# Altium integrated library Texas Instruments Interface 1394.IntLib: 47 symbols (part 6 of 17)
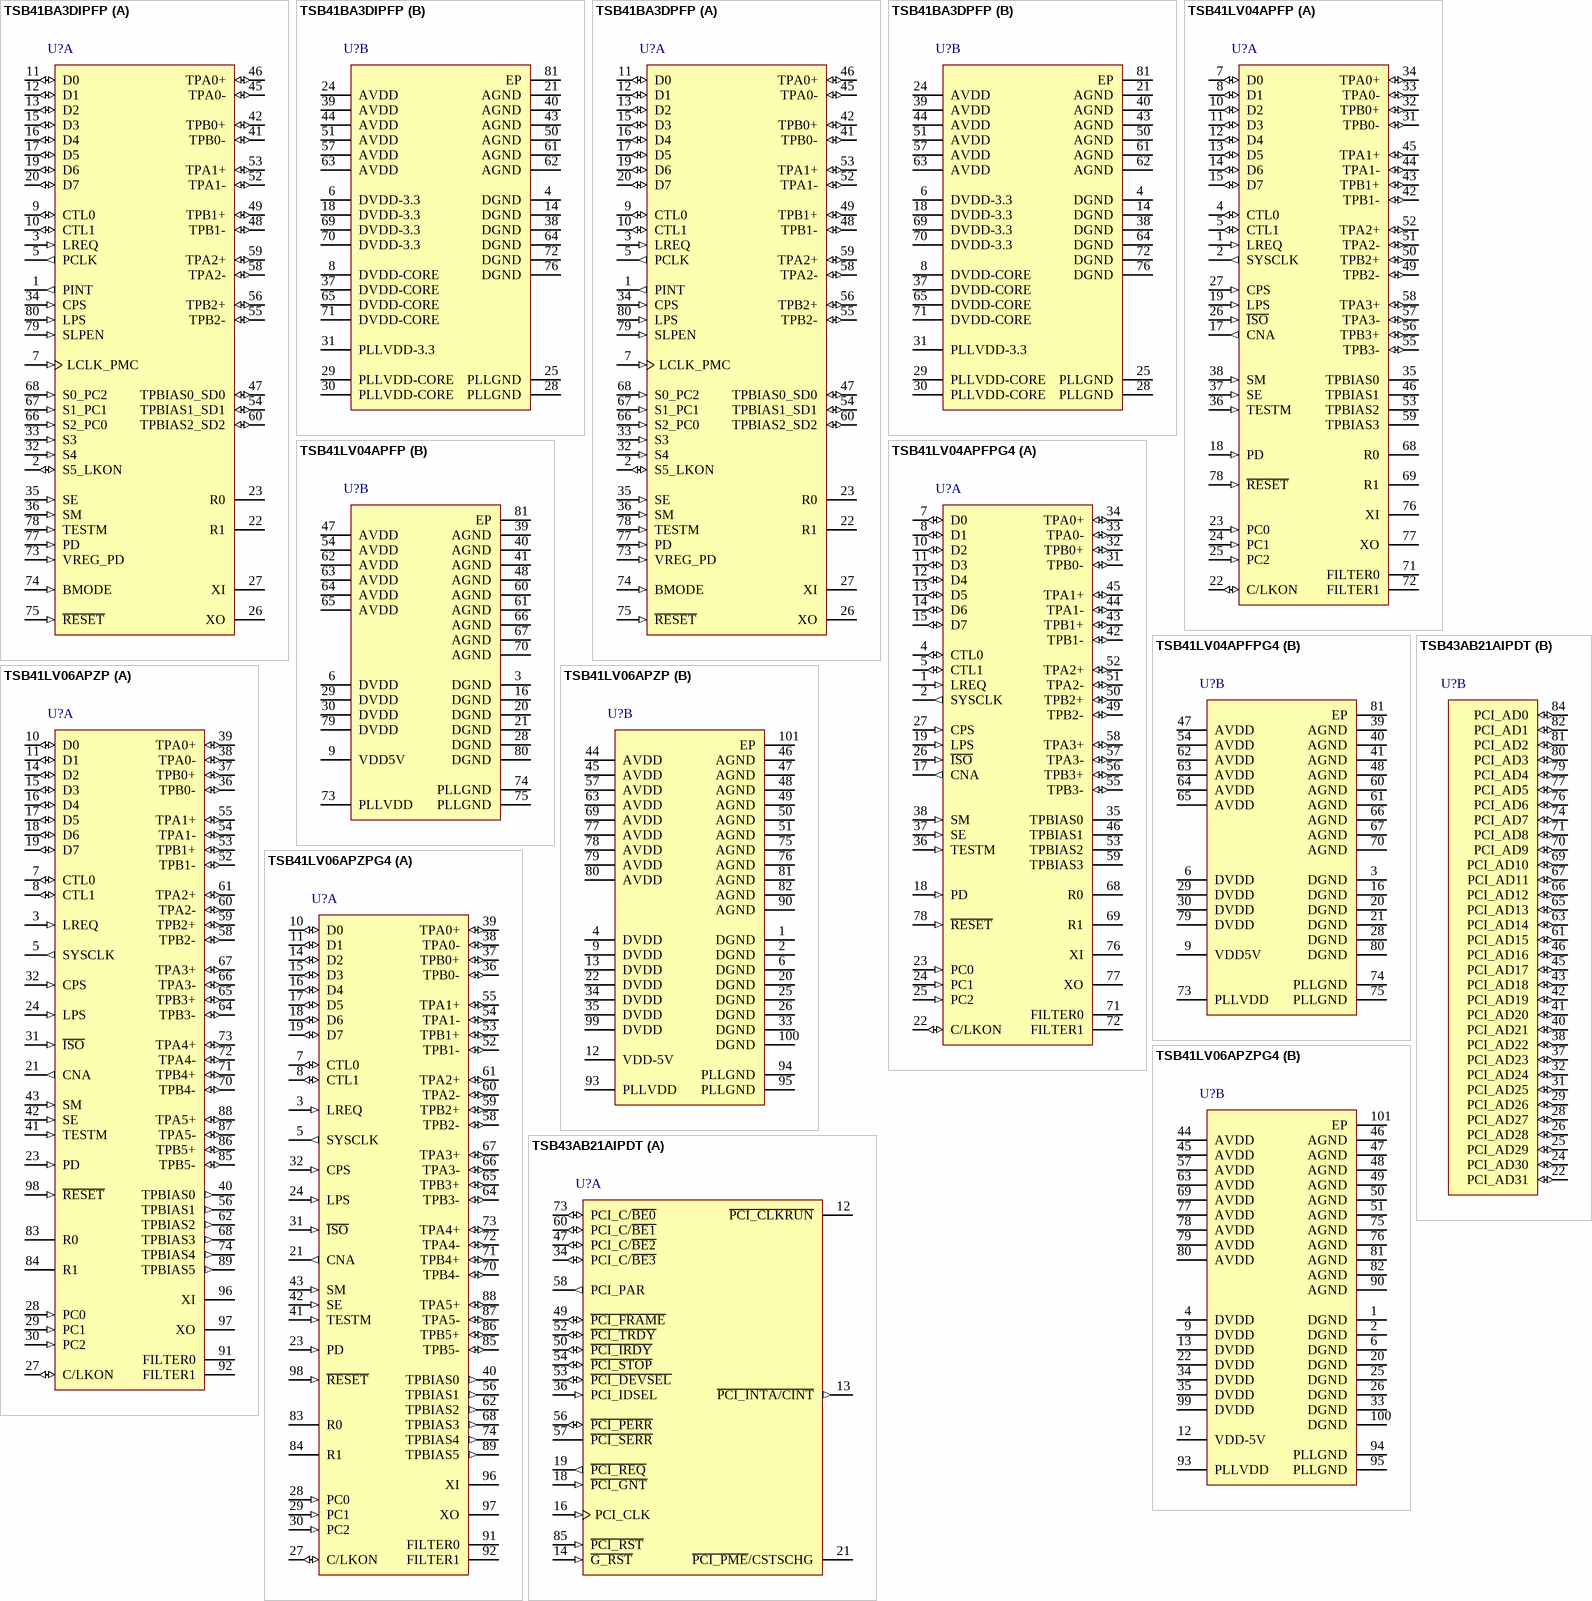
[diagram p16: symbols TSB41BA3DIPFP to TSB43AB21AIPDT]

## TSB41BA3DPFP
designator U?
400 Mbps S400 Capable 1394b Physical Layer (Phy), 3.3V, 0 to 70 degC, 80-Pin HTQFP (PFP), Green (RoHS & no Sb/Br); PartNumber: TSB41BA3DPFP; Manufacturer: Texas Instruments; SubFamily: 1394 Physical Layer Controller; Speed(Max)(Mbps): 400; Ports: 3; Supply Voltage(s)(V): 3.3; 1394b: True; Rating: Catalog; DatasheetVersion: SLLS959A; PackageVersion: revC, Jul-2011; PackageReference: PFP80-5450X5450TP; PackageDescription: 80-Pin Plastic Quad Flat Pack PowerPAD; Mounting Technology: Surface Mount; Eco-Plan: Green (RoHS & no Sb/Br); Code_JEDEC: MS-026; ComponentLink1Description: Datasheet; ComponentLink1URL: http://www.ti.com/general/docs/lit/getliterature.tsp?genericPartNumber=TSB41BA3D&fileType=pdf; ComponentLink2Description: Package Specification; ComponentLink2URL: http://www.ti.com/lit/ml/mpqf049b/mpqf049b.pdf
footprint PFP80-5450X5450TP_N (Thin QFP, 80-Leads, Body 12x12mm, Pitch 0.5mm, IPC Medium Density)
footprint PFP80-5450X5450TP_L (Thin QFP, 80-Leads, Body 12x12mm, Pitch 0.5mm, IPC High Density)
footprint PFP80-5450X5450TP_M (Thin QFP, 80-Leads, Body 12x12mm, Pitch 0.5mm, IPC Low Density)
part A pins: 1 PINT (out) "PHY interrupt. The PHY uses this output to serially transfer status and interrupt information to the link when PHY-link interface is in the 1394b mode. A bus holder is built into this terminal", 2 S5_LKON (io) "Port sleep/mode selection terminal 5 and link-on output. This terminal can be connected to the link-on input terminal of the LLC through a 1kohm resistor if the link-on input is available the link-on input terminal of the (See Datasheet)", 3 LREQ (in) "LLC request input. The LLC uses this input to initiate a service request to the TSB41BA3D.A bus holder is built into this terminal.", 5 PCLK (out) "PHY clock. Provides a 98.304-MHz clock signal, synchronized with data transfers, to the LLC when the PHY-link interface is operating in the 1394b mode (BMODE asserted). PCLK output provides a 49.152-MHz clock signal, (See Datasheet)", 7 LCLK_PMC (in) "Link clock. Link-provided 98.304-MHz clock signal to synchronize data transfers from link tothe PHY. On hardware reset, this terminal is sampled to determine the power management control (PMC) mode.[see datasheet]", 9 CTL0 (io) "Control I/Os. These bidirectional signals control communication between the TSB41BA3D and the LLC. Bus holders are built into these terminals.", 10 CTL1 (io) "Control I/Os. These bidirectional signals control communication between the TSB41BA3D and the LLC. Bus holders are built into these terminals.", 11 D0 (io) "Data I/Os. These are bidirectional data signals between the TSB82BA3 and the LLC. Bus holders are built into these terminals If power management control (PMC) is selected using LCLK_PMC, then some of these terminals can be (See Datasheet)", 12 D1 (io) "Data I/Os. These are bidirectional data signals between the TSB82BA3 and the LLC. Bus holders are built into these terminals If power management control (PMC) is selected using LCLK_PMC, then some of these terminals can be (See Datasheet)", 13 D2 (io) "Data I/Os. These are bidirectional data signals between the TSB82BA3 and the LLC. Bus holders are built into these terminals If power management control (PMC) is selected using LCLK_PMC, then some of these terminals can be (See Datasheet)", 15 D3 (io) "Data I/Os. These are bidirectional data signals between the TSB82BA3 and the LLC. Bus holders are built into these terminals If power management control (PMC) is selected using LCLK_PMC, then some of these terminals can be (See Datasheet)", 16 D4 (io) "Data I/Os. These are bidirectional data signals between the TSB82BA3 and the LLC. Bus holders are built into these terminals If power management control (PMC) is selected using LCLK_PMC, then some of these terminals can be (See Datasheet)", 17 D5 (io) "Data I/Os. These are bidirectional data signals between the TSB82BA3 and the LLC. Bus holders are built into these terminals If power management control (PMC) is selected using LCLK_PMC, then some of these terminals can be (See Datasheet)", 19 D6 (io) "Data I/Os. These are bidirectional data signals between the TSB82BA3 and the LLC. Bus holders are built into these terminals If power management control (PMC) is selected using LCLK_PMC, then some of these terminals can be (See Datasheet)", 20 D7 (io) "Data I/Os. These are bidirectional data signals between the TSB82BA3 and the LLC. Bus holders are built into these terminals If power management control (PMC) is selected using LCLK_PMC, then some of these terminals can be (See Datasheet)", 22 R1 "Current setting resistor terminals. These terminals are connected to a precision external resistance to set the internal operating currents and cable driver output currents. A resistance of 6.34 kohm +/-1% is required to (See Datasheet)", 23 R0 "Current setting resistor terminals. These terminals are connected to a precision external resistance to set the internal operating currents and cable driver output currents. A resistance of 6.34 kohm +/-1% is required to (See Datasheet)", 26 XO "Crystal oscillator inputs. These terminals connect to a 49.152-MHz parallel-resonant fundamental-mode crystal. The optimum values for the external shunt capacitors depend on the specifications of the crystal used (see the (See Datasheet)", 27 XI "Crystal oscillator inputs. These terminals connect to a 49.152-MHz parallel-resonant fundamental-mode crystal. The optimum values for the external shunt capacitors depend on the specifications of the crystal used (see the (See Datasheet)", 32 S4 (in) "Port sleep/mode selection terminal 4. On hardware reset, this terminal when used with the other five selection terminals allows the user to select the speed and mode of the ports See Table 2. Programming is done by tying the (See Datasheet)", 33 S3 (in) "Port sleep/mode selection terminal 3. On hardware reset, this terminal when used with the other five selection terminals allows the user to select the speed and mode of the ports See Table 2. Programming is done by tying the (See Datasheet)", 34 CPS (in) "Cable-power status input. This terminal is normally connected to cable power through a 400-kohm resistor. This circuit drives an internal comparator that detects the presence of cable power. This transition from cable power (See Datasheet)", 35 SE (in) "Test control input. This input is used in the manufacturing test of the TSB41BA3D. For normal use, this terminal must be pulled low either through a 1-kohm resistor to GND or directly to GND.", 36 SM (in) "Test control input. This input is used in the manufacturing test of the TSB41BA3D. For normal use, this terminal must be pulled low either through a 1-kohm resistor to GND or directly to GND.", 41 TPB0- (io) "Port-0 twisted-pair differential-signal terminals.Board traces from each pair of positive and negative differential signal terminals must be kept matched and as short as possible to the external load resistors and to the (See Datasheet)", 42 TPB0+ (io) "Port-0 twisted-pair differential-signal terminals.Board traces from each pair of positive and negative differential signal terminals must be kept matched and as short as possible to the external load resistors and to the (See Datasheet)", 45 TPA0- (io) "Port-0 twisted-pair differential-signal terminals.Board traces from each pair of positive and negative differential signal terminals must be kept matched and as short as possible to the external load resistors and to the (See Datasheet)", 46 TPA0+ (io) "Port-0 twisted-pair differential-signal terminals.Board traces from each pair of positive and negative differential signal terminals must be kept matched and as short as possible to the external load resistors and to the (See Datasheet)", 47 TPBIAS0_SD0 (io) "Twisted-pair bias output and signal detect input. This provides the 1.86-V nominal bias voltage needed for proper operation of the twisted-pair cable drivers and receivers, and for signaling to the remote nodes that there is (See Datasheet)", 48 TPB1- (io) "Port-1 twisted-pair differential-signal terminals. Board traces from each pair of positive and negative differential signal terminals must be kept matched and as short as possible to the external load resistors and to the (See Datasheet)", 49 TPB1+ (io) "Port-1 twisted-pair differential-signal terminals. Board traces from each pair of positive and negative differential signal terminals must be kept matched and as short as possible to the external load resistors and to the (See Datasheet)", 52 TPA1- (io) "Port-1 twisted-pair differential-signal terminals. Board traces from each pair of positive and negative differential signal terminals must be kept matched and as short as possible to the external load resistors and to the (See Datasheet)", 53 TPA1+ (io) "Port-1 twisted-pair differential-signal terminals. Board traces from each pair of positive and negative differential signal terminals must be kept matched and as short as possible to the external load resistors and to the (See Datasheet)", 54 TPBIAS1_SD1 (io) "Twisted-pair bias output and signal detect input. This provides the 1.86-V nominal bias voltage needed for proper operation of the twisted-pair cable drivers and receivers, and for signaling to the remote nodes that there is (See Datasheet)", 55 TPB2- (io) "Port-2 twisted-pair differential-signal terminals. Board traces from each pair of positive and negative differential signal terminals must be kept matched and as short as possible to the external load resistors and to the (See Datasheet)", 56 TPB2+ (io) "Port-2 twisted-pair differential-signal terminals. Board traces from each pair of positive and negative differential signal terminals must be kept matched and as short as possible to the external load resistors and to the (See Datasheet)", 58 TPA2- (io) "Port-2 twisted-pair differential-signal terminals. Board traces from each pair of positive and negative differential signal terminals must be kept matched and as short as possible to the external load resistors and to the (See Datasheet)", 59 TPA2+ (io) "Port-2 twisted-pair differential-signal terminals. Board traces from each pair of positive and negative differential signal terminals must be kept matched and as short as possible to the external load resistors and to the (See Datasheet)", 60 TPBIAS2_SD2 (io) "Twisted-pair bias output and signal detect input. This provides the 1.86-V nominal bias voltage needed for proper operation of the twisted-pair cable drivers and receivers, and for signaling to the remote nodes that there is (See Datasheet)", 66 S2_PC0 (in) "Port sleep/mode selection terminals 2-0 and power-class programming. On hardware reset, this terminal when used with the other five selection terminals allows the user to select the speed and mode of the ports. See Table 2. (See Datasheet)", 67 S1_PC1 (in) "Port sleep/mode selection terminals 2-0 and power-class programming. On hardware reset, this terminal when used with the other five selection terminals allows the user to select the speed and mode of the ports. See Table 2. (See Datasheet)", 68 S0_PC2 (in) "Port sleep/mode selection terminals 2-0 and power-class programming. On hardware reset, this terminal when used with the other five selection terminals allows the user to select the speed and mode of the ports. See Table 2. (See Datasheet)", 73 VREG_PD (in) "Voltage regulator power-down input. When asserted logic-high, this terminal powers down the internal 3.3-V-to-1.8-V regulator. For single-supply (3.3-V only) operation, this terminal must be tied to GND", 74 BMODE (in) "Beta-mode input. This terminal determines the PHY-link interface connection protocol. When logic-high (asserted), the PHY-link interface complies with the 1394b-2002 B  PHY-link interface. When logic-low (deasserted), the (See Datasheet)", 75 ~{RESET} (in) "Logic reset input. Asserting this terminal low resets the internal logic. An internal pullup resistor to VDD is provided so only an external delay capacitor is required for proper power-up operation (see power-up reset in (See Datasheet)", 77 PD (in) "Power-down input. A high on this terminal turns off all internal circuitry. Asserting the PD input high also activates an internal pulldown on the R\E\S\E\T\ terminal to force a reset of the internal control logic.", 78 TESTM (in) "Test control input. This input is used in the manufacturing test of the TSB41BA3D. For normal use this terminal must be pulled high through a 1-kohm resistor to VDD.", 79 SLPEN (in) "Automotive sleep mode enable input. This terminal enables the automotive sleep mode.When deasserted (logic-low), normal 1394.b functionality is maintained.", 80 LPS (in) "Link power status input. This terminal monitors the active/power status of the link-layer controller (LLC) and controls the state of the PHY-LLC interface. This terminal must be connected to either the VDD supplying the LLC (See Datasheet)"
part B pins: 4 DGND (power) "Digital circuit ground terminals. These terminals must be tied together to the low-impedance circuit board ground plane.", 6 DVDD-3.3 (power) "Digital 3.3-V circuit power terminals. A combination of high-frequency decoupling capacitors near each terminal is suggested, such as paralleled 0.1 uF and 0.001 uF. Lower-frequency 10-uF filtering capacitors are also (See Datasheet)", 8 DVDD-CORE (power) "Digital core circuit power terminals. A combination of high-frequency decoupling capacitors near each terminal is suggested, such as paralleled 0.1 uF and 0.001 uF. An additional 1-uF capacitor is required for voltage (See Datasheet)", 14 DGND (power) "Digital circuit ground terminals. These terminals must be tied together to the low-impedance circuit board ground plane", 18 DVDD-3.3 (power) "Digital core circuit power terminals. A combination of high-frequency decoupling capacitors near each terminal is suggested, such as paralleled 0.1 uF and 0.001 uF. An additional 1-uF capacitor is required for voltage (See Datasheet)", 21 AGND (power) "Analog circuit ground terminals. These terminals must be tied together to the low-impedance circuit board ground plane.", 24 AVDD (power) "Analog circuit power terminals. A combination of high-frequency decoupling capacitors near each terminal is suggested, such as paralleled 0.1 uF and 0.001 uF. Lower frequency 10-uF filtering capacitors are also recommended. (See Datasheet)", 25 PLLGND (power) "PLL circuit ground terminals. These terminals must be tied together to the low-impedance circuit board ground plane", 28 PLLGND (power) "PLL circuit ground terminals. These terminals must be tied together to the low-impedance circuit board ground plane", 29 PLLVDD-CORE (power) "PLL core circuit power terminals. A combination of high-frequency decoupling capacitors near each terminal is suggested, such as paralleled 0.1 uF and 0.001 uF. An additional 1-uF capacitor is required for voltage regulation.(See Datasheet)", 30 PLLVDD-CORE (power) "PLL core circuit power terminals. A combination of high-frequency decoupling capacitors near each terminal is suggested, such as paralleled 0.1 uF and 0.001 uF. An additional 1-uF capacitor is required for voltage regulation.(See Datasheet)", 31 PLLVDD-3.3 (power) "PLL 3.3-V circuit power terminal. A combination of high-frequency decoupling capacitors near the terminal are suggested, such as paralleled 0.1 uF and  0.001 uF. Lower frequency 10-uF filtering capacitors are also (See Datasheet)", 37 DVDD-CORE (power) "Digital core circuit power terminals. A combination of high-frequency decoupling capacitors near each terminal is suggested, such as paralleled 0.1 uF and 0.001 uF. An additional 1-uF capacitor is required for voltage (See Datasheet)", 38 DGND (power) "Digital circuit ground terminals. These terminals must be tied together to the low-impedance circuit board ground plane.", 39 AVDD (power) "Analog circuit power terminals. A combination of high-frequency decoupling capacitors near each terminal is suggested, such as paralleled 0.1 uF and 0.001 uF. Lower frequency 10-uF filtering capacitors are also recommended. (See Datasheet)", 40 AGND (power) "Analog circuit ground terminals. These terminals must be tied together to the low-impedance circuit board ground plane.", 43 AGND (power) "Analog circuit ground terminals. These terminals must be tied together to the low-impedance circuit board ground plane.", 44 AVDD (power) "Analog circuit power terminals. A combination of high-frequency decoupling capacitors near each terminal is suggested, such as paralleled 0.1 uF and 0.001 uF. Lower frequency 10-uF filtering capacitors are also recommended. (See Datasheet)", 50 AGND (power) "Analog circuit ground terminals. These terminals must be tied together to the low-impedance circuit board ground plane.", 51 AVDD (power) "Analog circuit power terminals. A combination of high-frequency decoupling capacitors near each terminal is suggested, such as paralleled 0.1 uF and 0.001 uF. Lower frequency 10-uF filtering capacitors are also recommended. (See Datasheet)", 57 AVDD (power) "Analog circuit power terminals. A combination of high-frequency decoupling capacitors near each terminal is suggested, such as paralleled 0.1 uF and 0.001 uF. Lower frequency 10-uF filtering capacitors are also recommended. (See Datasheet)", 61 AGND (power) "Analog circuit ground terminals. These terminals must be tied together to the low-impedance circuit board ground plane.", 62 AGND (power) "Analog circuit ground terminals. These terminals must be tied together to the low-impedance circuit board ground plane.", 63 AVDD (power) "Analog circuit power terminals. A combination of high-frequency decoupling capacitors near each terminal is suggested, such as paralleled 0.1 uF and 0.001 uF. Lower frequency 10-uF filtering capacitors are also recommended. (See Datasheet)", 64 DGND (power) "Digital circuit ground terminals. These terminals must be tied together to the low-impedance circuit board ground plane.", 65 DVDD-CORE (power) "Digital core circuit power terminals. A combination of high-frequency decoupling capacitors near each terminal is suggested, such as paralleled 0.1 uF and 0.001 uF. An additional 1-mF capacitor is required for voltage (See Datasheet)", 69 DVDD-3.3 (power) "Digital 3.3-V circuit power terminals. A combination of high-frequency decoupling capacitors near each terminal is suggested, such as paralleled 0.1 uF and 0.001 uF. Lower-frequency 10-uF filtering capacitors are also (See Datasheet)", 70 DVDD-3.3 (power) "Digital 3.3-V circuit power terminals. A combination of high-frequency decoupling capacitors near each terminal is suggested, such as paralleled 0.1 uF and 0.001 uF. Lower-frequency 10-uF filtering capacitors are also (See Datasheet)", 71 DVDD-CORE (power) "Digital core circuit power terminals. A combination of high-frequency decoupling capacitors near each terminal is suggested, such as paralleled 0.1 uF and 0.001 uF. An additional 1-uF capacitor is required for voltage (See Datasheet)", 72 DGND (power) "Digital circuit ground terminals. These terminals must be tied together to the low-impedance circuit board ground plane.", 76 DGND (power) "Digital circuit ground terminals. These terminals must be tied together to the low-impedance circuit board ground plane.", 81 EP (power) "Exposed Pad"

## TSB41LV04APFP
designator U?
400 Mbps IEEE 1394a Four-Port Cable Transceiver / Arbiter, 3.3V, 80-Pin HTQFP (PFP), Green (RoHS & no Sb/Br); PartNumber: TSB41LV04APFP; Manufacturer: Texas Instruments; SubFamily: 1394 Physical Layer Controller; Speed(Max)(Mbps): 400; Ports: 4; Supply Voltage(s)(V): 3.3; Rating: Catalog; DatasheetVersion: SLLS379A; PackageVersion: revC, Jul-2011; PackageReference: PFP80-5450X5450TP; PackageDescription: 80-Pin Plastic Quad Flat Pack PowerPAD; Mounting Technology: Surface Mount; Eco-Plan: Green (RoHS & no Sb/Br); Code_JEDEC: MS-026; ComponentLink1Description: Datasheet; ComponentLink1URL: http://www.ti.com/general/docs/lit/getliterature.tsp?genericPartNumber=TSB41LV04A&fileType=pdf; ComponentLink2Description: Package Specification; ComponentLink2URL: http://www.ti.com/lit/ml/mpqf049b/mpqf049b.pdf
footprint PFP80-5450X5450TP_N (Thin QFP, 80-Leads, Body 12x12mm, Pitch 0.5mm, IPC Medium Density)
footprint PFP80-5450X5450TP_L (Thin QFP, 80-Leads, Body 12x12mm, Pitch 0.5mm, IPC High Density)
footprint PFP80-5450X5450TP_M (Thin QFP, 80-Leads, Body 12x12mm, Pitch 0.5mm, IPC Low Density)
part A pins: 1 LREQ (in) "LLC request input. The LLC uses this input to initiate a service request to the TSB41LV04A. Bus holder is built into this terminal.", 2 SYSCLK (out) "System clock output. Provides a 49.152 MHz clock signal, synchronized with data transfers, to the LLC.", 4 CTL0 (io) "Control I/Os. These bidirectional signals control communication between the TSB41LV04A and the LLC. Bus holders are built into these terminals.", 5 CTL1 (io) "Control I/Os. These bidirectional signals control communication between the TSB41LV04A and the LLC. Bus holders are built into these terminals.", 7 D0 (io) "Data I/Os. These are bidirectional data signals between the TSB41LV04A and the LLC. Bus holders are built into these terminals.", 8 D1 (io) "Data I/Os. These are bidirectional data signals between the TSB41LV04A and the LLC. Bus holders are built into these terminals.", 10 D2 (io) "Data I/Os. These are bidirectional data signals between the TSB41LV04A and the LLC. Bus holders are built into these terminals.", 11 D3 (io) "Data I/Os. These are bidirectional data signals between the TSB41LV04A and the LLC. Bus holders are built into these terminals.", 12 D4 (io) "Data I/Os. These are bidirectional data signals between the TSB41LV04A and the LLC. Bus holders are built into these terminals.", 13 D5 (io) "Data I/Os. These are bidirectional data signals between the TSB41LV04A and the LLC. Bus holders are built into these terminals.", 14 D6 (io) "Data I/Os. These are bidirectional data signals between the TSB41LV04A and the LLC. Bus holders are built into these terminals.", 15 D7 (io) "Data I/Os. These are bidirectional data signals between the TSB41LV04A and the LLC. Bus holders are built into these terminals.", 17 CNA (out) "Cable not active output. This terminal is asserted high when there are no ports receiving incoming bias voltage.", 18 PD (in) "Power-down input. A high on this terminal turns off all internal circuitry except the cable-active monitor circuits, which control the CNA output. [see datasheet]", 19 LPS (in) "Link power status input. This terminal is used to monitor the active/power status of the link layer controller and to control the state of the PHY-LLC interface. [see datasheet]", 22 C/LKON (io) "Bus manager contender programming input and link-on output. On hardware reset, this terminal is used to set the default value of the contender status indicated during self-ID. [see datasheet]", 23 PC0 (in) "Power class programming inputs. On hardware reset, these inputs set the default value of the power-class indicated during self-ID. [see datasheet]", 24 PC1 (in) "Power class programming inputs. On hardware reset, these inputs set the default value of the power-class indicated during self-ID. [see datasheet]", 25 PC2 (in) "Power class programming inputs. On hardware reset, these inputs set the default value of the power-class indicated during self-ID. [see datasheet]", 26 ~{ISO} (in) "Link interface isolation control input. This terminal controls the operation of output differentiation logic on the CTL and D terminals. [see datasheet]", 27 CPS (in) "Cable power status input. This terminal is normally connected to cable power through a 400-k ohm resistor. [see datasheet]", 31 TPB0- (io) "Twisted-pair cable B differential signal terminals. [see datasheet]", 32 TPB0+ (io) "Twisted-pair cable B differential signal terminals. [see datasheet]", 33 TPA0- (io) "Twisted-pair cable A differential signal terminals. [see datasheet]", 34 TPA0+ (io) "Twisted-pair cable A differential signal terminals. [see datasheet]", 35 TPBIAS0 (hiz) "Twisted-pair bias output. [see datasheet]", 36 TESTM (in) "Test control input. This input is used in manufacturing test of the TSB41LV04A. For normal use this terminal should be tied to VDD.", 37 SE (in) "Test control input. This input is used in manufacturing test of the TSB41LV04A. For normal use this terminal should be tied to GND through a 1-k ohm pulldown resistor.", 38 SM (in) "Test control input. This input is used in manufacturing test of the TSB41LV04A. For normal use this terminal should be tied to GND.", 42 TPB1- (io) "Twisted-pair cable B differential signal terminals. [see datasheet]", 43 TPB1+ (io) "Twisted-pair cable B differential signal terminals. [see datasheet]", 44 TPA1- (io) "Twisted-pair cable A differential signal terminals. [see datasheet]", 45 TPA1+ (io) "Twisted-pair cable A differential signal terminals. [see datasheet]", 46 TPBIAS1 (hiz) "Twisted-pair bias output. [see datasheet]", 49 TPB2- (io) "Twisted-pair cable B differential signal terminals. [see datasheet]", 50 TPB2+ (io) "Twisted-pair cable B differential signal terminals. [see datasheet]", 51 TPA2- (io) "Twisted-pair cable A differential signal terminals. [see datasheet]", 52 TPA2+ (io) "Twisted-pair cable A differential signal terminals. [see datasheet]", 53 TPBIAS2 (hiz) "Twisted-pair bias output. [see datasheet]", 55 TPB3- (io) "Twisted-pair cable B differential signal terminals. [see datasheet]", 56 TPB3+ (io) "Twisted-pair cable B differential signal terminals. [see datasheet]", 57 TPA3- (io) "Twisted-pair cable A differential signal terminals. [see datasheet]", 58 TPA3+ (io) "Twisted-pair cable A differential signal terminals. [see datasheet]", 59 TPBIAS3 (hiz) "Twisted-pair bias output. [see datasheet]", 68 R0 "Current setting resistor terminals. These terminals are connected to an external resistance to set the internal operating currents and cable driver output currents. [see datasheet]", 69 R1 "Current setting resistor terminals. These terminals are connected to an external resistance to set the internal operating currents and cable driver output currents. [see datasheet]", 71 FILTER0 "PLL filter terminals. [see datasheet]", 72 FILTER1 "PLL filter terminals. [see datasheet]", 76 XI "Crystal oscillator inputs. These terminals connect to a 24.576 MHz parallel resonant fundamental mode crystal. [see datasheet]", 77 XO "Crystal oscillator outputs. These terminals connect to a 24.576 MHz parallel resonant fundamental mode crystal. [see datasheet]", 78 ~{RESET} (in) "Logic reset input. Asserting this terminal low resets the internal logic. [see datasheet]"
part B pins: 3 DGND (power) "Digital circuit ground terminals. These terminals should be tied together to the low impedance circuit board ground plane.", 6 DVDD (power) "Digital circuit power terminals. A combination of high frequency decoupling capacitors near each terminal are suggested, such as paralleled 0.1 uF and 0.001 uF. [see datasheet]", 9 VDD5V (power) "5-V VDD terminal. This terminal should be connected to the LLC VDD supply when a 5-V LLC is used, and should be connected to the PHY DVDD when a 3-V LLC is used. [see datasheet]", 16 DGND (power) "Digital circuit ground terminals. These terminals should be tied together to the low impedance circuit board ground plane.", 20 DGND (power) "Digital circuit ground terminals. These terminals should be tied together to the low impedance circuit board ground plane.", 21 DGND (power) "Digital circuit ground terminals. These terminals should be tied together to the low impedance circuit board ground plane.", 28 DGND (power) "Digital circuit ground terminals. These terminals should be tied together to the low impedance circuit board ground plane.", 29 DVDD (power) "Digital circuit power terminals. A combination of high frequency decoupling capacitors near each terminal are suggested, such as paralleled 0.1 uF and 0.001 uF. [see datasheet]", 30 DVDD (power) "Digital circuit power terminals. A combination of high frequency decoupling capacitors near each terminal are suggested, such as paralleled 0.1 uF and 0.001 uF. [see datasheet]", 39 AGND (power) "Analog circuit ground terminals. Tie these terminals together to the low impedance circuit board ground plane.", 40 AGND (power) "Analog circuit ground terminals. Tie these terminals together to the low impedance circuit board ground plane.", 41 AGND (power) "Analog circuit ground terminals. Tie these terminals together to the low impedance circuit board ground plane.", 47 AVDD (power) "Analog circuit power terminals. A combination of high frequency decoupling capacitors near each terminal are suggested, such as paralleled 0.1uF and 0.001uF. [see datasheet]", 48 AGND (power) "Analog circuit ground terminals. Tie these terminals together to the low impedance circuit board ground plane.", 54 AVDD (power) "Analog circuit power terminals. A combination of high frequency decoupling capacitors near each terminal are suggested, such as paralleled 0.1 uF and 0.001 uF. [see datasheet]", 60 AGND (power) "Analog circuit ground terminals. Tie these terminals together to the low impedance circuit board ground plane.", 61 AGND (power) "Analog circuit ground terminals. Tie these terminals together to the low impedance circuit board ground plane.", 62 AVDD (power) "Analog circuit power terminals. A combination of high frequency decoupling capacitors near each terminal are suggested, such as paralleled 0.1 uF and 0.001 uF. [see datasheet]", 63 AVDD (power) "Analog circuit power terminals. A combination of high frequency decoupling capacitors near each terminal are suggested, such as paralleled 0.1 uF and 0.001 uF. [see datasheet]", 64 AVDD (power) "Analog circuit power terminals. A combination of high frequency decoupling capacitors near each terminal are suggested, such as paralleled 0.1 uF and 0.001 uF. [see datasheet]", 65 AVDD (power) "Analog circuit power terminals. A combination of high frequency decoupling capacitors near each terminal are suggested, such as paralleled 0.1 uF and 0.001 uF. [see datasheet]", 66 AGND (power) "Analog circuit ground terminals. Tie these terminals together to the low impedance circuit board ground plane.", 67 AGND (power) "Analog circuit ground terminals. Tie these terminals together to the low impedance circuit board ground plane.", 70 AGND (power) "Analog circuit ground terminals. Tie these terminals together to the low impedance circuit board ground plane.", 73 PLLVDD (power) "PLL circuit power terminals. A combination of high frequency decoupling capacitors near each terminal are suggested, such as paralleled 0.1 uF and 0.001 uF. [see datasheet]", 74 PLLGND (power) "PLL circuit ground terminals. These terminals should be tied together to the low impedance circuit board ground plane.", 75 PLLGND (power) "PLL circuit ground terminals. These terminals should be tied together to the low impedance circuit board ground plane.", 79 DVDD (power) "Digital circuit power terminals. A combination of high frequency decoupling capacitors near each terminal are suggested, such as paralleled 0.1 uF and 0.001 uF. [see datasheet]", 80 DGND (power) "Digital circuit ground terminals. These terminals should be tied together to the low impedance circuit board ground plane.", 81 EP (power) "Exposed Thermal Pad."

## TSB41LV04APFPG4
designator U?
400 Mbps IEEE 1394a Four-Port Cable Transceiver / Arbiter, 3.3V, 80-Pin HTQFP (PFP), Green (RoHS & no Sb/Br); PartNumber: TSB41LV04APFPG4; Manufacturer: Texas Instruments; SubFamily: 1394 Physical Layer Controller; Speed(Max)(Mbps): 400; Ports: 4; Supply Voltage(s)(V): 3.3; Rating: Catalog; DatasheetVersion: SLLS379A; PackageVersion: revC, Jul-2011; PackageReference: PFP80-5450X5450TP; PackageDescription: 80-Pin Plastic Quad Flat Pack PowerPAD; Mounting Technology: Surface Mount; Eco-Plan: Green (RoHS & no Sb/Br); Code_JEDEC: MS-026; ComponentLink1Description: Datasheet; ComponentLink1URL: http://www.ti.com/general/docs/lit/getliterature.tsp?genericPartNumber=TSB41LV04A&fileType=pdf; ComponentLink2Description: Package Specification; ComponentLink2URL: http://www.ti.com/lit/ml/mpqf049b/mpqf049b.pdf
footprint PFP80-5450X5450TP_N (Thin QFP, 80-Leads, Body 12x12mm, Pitch 0.5mm, IPC Medium Density)
footprint PFP80-5450X5450TP_L (Thin QFP, 80-Leads, Body 12x12mm, Pitch 0.5mm, IPC High Density)
footprint PFP80-5450X5450TP_M (Thin QFP, 80-Leads, Body 12x12mm, Pitch 0.5mm, IPC Low Density)
part A pins: 1 LREQ (in) "LLC request input. The LLC uses this input to initiate a service request to the TSB41LV04A. Bus holder is built into this terminal.", 2 SYSCLK (out) "System clock output. Provides a 49.152 MHz clock signal, synchronized with data transfers, to the LLC.", 4 CTL0 (io) "Control I/Os. These bidirectional signals control communication between the TSB41LV04A and the LLC. Bus holders are built into these terminals.", 5 CTL1 (io) "Control I/Os. These bidirectional signals control communication between the TSB41LV04A and the LLC. Bus holders are built into these terminals.", 7 D0 (io) "Data I/Os. These are bidirectional data signals between the TSB41LV04A and the LLC. Bus holders are built into these terminals.", 8 D1 (io) "Data I/Os. These are bidirectional data signals between the TSB41LV04A and the LLC. Bus holders are built into these terminals.", 10 D2 (io) "Data I/Os. These are bidirectional data signals between the TSB41LV04A and the LLC. Bus holders are built into these terminals.", 11 D3 (io) "Data I/Os. These are bidirectional data signals between the TSB41LV04A and the LLC. Bus holders are built into these terminals.", 12 D4 (io) "Data I/Os. These are bidirectional data signals between the TSB41LV04A and the LLC. Bus holders are built into these terminals.", 13 D5 (io) "Data I/Os. These are bidirectional data signals between the TSB41LV04A and the LLC. Bus holders are built into these terminals.", 14 D6 (io) "Data I/Os. These are bidirectional data signals between the TSB41LV04A and the LLC. Bus holders are built into these terminals.", 15 D7 (io) "Data I/Os. These are bidirectional data signals between the TSB41LV04A and the LLC. Bus holders are built into these terminals.", 17 CNA (out) "Cable not active output. This terminal is asserted high when there are no ports receiving incoming bias voltage.", 18 PD (in) "Power-down input. A high on this terminal turns off all internal circuitry except the cable-active monitor circuits, which control the CNA output. [see datasheet]", 19 LPS (in) "Link power status input. This terminal is used to monitor the active/power status of the link layer controller and to control the state of the PHY-LLC interface. [see datasheet]", 22 C/LKON (io) "Bus manager contender programming input and link-on output. On hardware reset, this terminal is used to set the default value of the contender status indicated during self-ID. [see datasheet]", 23 PC0 (in) "Power class programming inputs. On hardware reset, these inputs set the default value of the power-class indicated during self-ID. [see datasheet]", 24 PC1 (in) "Power class programming inputs. On hardware reset, these inputs set the default value of the power-class indicated during self-ID. [see datasheet]", 25 PC2 (in) "Power class programming inputs. On hardware reset, these inputs set the default value of the power-class indicated during self-ID. [see datasheet]", 26 ~{ISO} (in) "Link interface isolation control input. This terminal controls the operation of output differentiation logic on the CTL and D terminals. [see datasheet]", 27 CPS (in) "Cable power status input. This terminal is normally connected to cable power through a 400-k ohm resistor. [see datasheet]", 31 TPB0- (io) "Twisted-pair cable B differential signal terminals. [see datasheet]", 32 TPB0+ (io) "Twisted-pair cable B differential signal terminals. [see datasheet]", 33 TPA0- (io) "Twisted-pair cable A differential signal terminals. [see datasheet]", 34 TPA0+ (io) "Twisted-pair cable A differential signal terminals. [see datasheet]", 35 TPBIAS0 (hiz) "Twisted-pair bias output. [see datasheet]", 36 TESTM (in) "Test control input. This input is used in manufacturing test of the TSB41LV04A. For normal use this terminal should be tied to VDD.", 37 SE (in) "Test control input. This input is used in manufacturing test of the TSB41LV04A. For normal use this terminal should be tied to GND through a 1-k ohm pulldown resistor.", 38 SM (in) "Test control input. This input is used in manufacturing test of the TSB41LV04A. For normal use this terminal should be tied to GND.", 42 TPB1- (io) "Twisted-pair cable B differential signal terminals. [see datasheet]", 43 TPB1+ (io) "Twisted-pair cable B differential signal terminals. [see datasheet]", 44 TPA1- (io) "Twisted-pair cable A differential signal terminals. [see datasheet]", 45 TPA1+ (io) "Twisted-pair cable A differential signal terminals. [see datasheet]", 46 TPBIAS1 (hiz) "Twisted-pair bias output. [see datasheet]", 49 TPB2- (io) "Twisted-pair cable B differential signal terminals. [see datasheet]", 50 TPB2+ (io) "Twisted-pair cable B differential signal terminals. [see datasheet]", 51 TPA2- (io) "Twisted-pair cable A differential signal terminals. [see datasheet]", 52 TPA2+ (io) "Twisted-pair cable A differential signal terminals. [see datasheet]", 53 TPBIAS2 (hiz) "Twisted-pair bias output. [see datasheet]", 55 TPB3- (io) "Twisted-pair cable B differential signal terminals. [see datasheet]", 56 TPB3+ (io) "Twisted-pair cable B differential signal terminals. [see datasheet]", 57 TPA3- (io) "Twisted-pair cable A differential signal terminals. [see datasheet]", 58 TPA3+ (io) "Twisted-pair cable A differential signal terminals. [see datasheet]", 59 TPBIAS3 (hiz) "Twisted-pair bias output. [see datasheet]", 68 R0 "Current setting resistor terminals. These terminals are connected to an external resistance to set the internal operating currents and cable driver output currents. [see datasheet]", 69 R1 "Current setting resistor terminals. These terminals are connected to an external resistance to set the internal operating currents and cable driver output currents. [see datasheet]", 71 FILTER0 "PLL filter terminals. [see datasheet]", 72 FILTER1 "PLL filter terminals. [see datasheet]", 76 XI "Crystal oscillator inputs. These terminals connect to a 24.576 MHz parallel resonant fundamental mode crystal. [see datasheet]", 77 XO "Crystal oscillator outputs. These terminals connect to a 24.576 MHz parallel resonant fundamental mode crystal. [see datasheet]", 78 ~{RESET} (in) "Logic reset input. Asserting this terminal low resets the internal logic. [see datasheet]"
part B pins: 3 DGND (power) "Digital circuit ground terminals. These terminals should be tied together to the low impedance circuit board ground plane.", 6 DVDD (power) "Digital circuit power terminals. A combination of high frequency decoupling capacitors near each terminal are suggested, such as paralleled 0.1 uF and 0.001 uF. [see datasheet]", 9 VDD5V (power) "5-V VDD terminal. This terminal should be connected to the LLC VDD supply when a 5-V LLC is used, and should be connected to the PHY DVDD when a 3-V LLC is used. [see datasheet]", 16 DGND (power) "Digital circuit ground terminals. These terminals should be tied together to the low impedance circuit board ground plane.", 20 DGND (power) "Digital circuit ground terminals. These terminals should be tied together to the low impedance circuit board ground plane.", 21 DGND (power) "Digital circuit ground terminals. These terminals should be tied together to the low impedance circuit board ground plane.", 28 DGND (power) "Digital circuit ground terminals. These terminals should be tied together to the low impedance circuit board ground plane.", 29 DVDD (power) "Digital circuit power terminals. A combination of high frequency decoupling capacitors near each terminal are suggested, such as paralleled 0.1 uF and 0.001 uF. [see datasheet]", 30 DVDD (power) "Digital circuit power terminals. A combination of high frequency decoupling capacitors near each terminal are suggested, such as paralleled 0.1 uF and 0.001 uF. [see datasheet]", 39 AGND (power) "Analog circuit ground terminals. Tie these terminals together to the low impedance circuit board ground plane.", 40 AGND (power) "Analog circuit ground terminals. Tie these terminals together to the low impedance circuit board ground plane.", 41 AGND (power) "Analog circuit ground terminals. Tie these terminals together to the low impedance circuit board ground plane.", 47 AVDD (power) "Analog circuit power terminals. A combination of high frequency decoupling capacitors near each terminal are suggested, such as paralleled 0.1uF and 0.001uF. [see datasheet]", 48 AGND (power) "Analog circuit ground terminals. Tie these terminals together to the low impedance circuit board ground plane.", 54 AVDD (power) "Analog circuit power terminals. A combination of high frequency decoupling capacitors near each terminal are suggested, such as paralleled 0.1 uF and 0.001 uF. [see datasheet]", 60 AGND (power) "Analog circuit ground terminals. Tie these terminals together to the low impedance circuit board ground plane.", 61 AGND (power) "Analog circuit ground terminals. Tie these terminals together to the low impedance circuit board ground plane.", 62 AVDD (power) "Analog circuit power terminals. A combination of high frequency decoupling capacitors near each terminal are suggested, such as paralleled 0.1 uF and 0.001 uF. [see datasheet]", 63 AVDD (power) "Analog circuit power terminals. A combination of high frequency decoupling capacitors near each terminal are suggested, such as paralleled 0.1 uF and 0.001 uF. [see datasheet]", 64 AVDD (power) "Analog circuit power terminals. A combination of high frequency decoupling capacitors near each terminal are suggested, such as paralleled 0.1 uF and 0.001 uF. [see datasheet]", 65 AVDD (power) "Analog circuit power terminals. A combination of high frequency decoupling capacitors near each terminal are suggested, such as paralleled 0.1 uF and 0.001 uF. [see datasheet]", 66 AGND (power) "Analog circuit ground terminals. Tie these terminals together to the low impedance circuit board ground plane.", 67 AGND (power) "Analog circuit ground terminals. Tie these terminals together to the low impedance circuit board ground plane.", 70 AGND (power) "Analog circuit ground terminals. Tie these terminals together to the low impedance circuit board ground plane.", 73 PLLVDD (power) "PLL circuit power terminals. A combination of high frequency decoupling capacitors near each terminal are suggested, such as paralleled 0.1 uF and 0.001 uF. [see datasheet]", 74 PLLGND (power) "PLL circuit ground terminals. These terminals should be tied together to the low impedance circuit board ground plane.", 75 PLLGND (power) "PLL circuit ground terminals. These terminals should be tied together to the low impedance circuit board ground plane.", 79 DVDD (power) "Digital circuit power terminals. A combination of high frequency decoupling capacitors near each terminal are suggested, such as paralleled 0.1 uF and 0.001 uF. [see datasheet]", 80 DGND (power) "Digital circuit ground terminals. These terminals should be tied together to the low impedance circuit board ground plane.", 81 EP (power) "Exposed Thermal Pad."